# Altium schematic symbol library SCH - INTERFACE - CAN - TCAN1042HGVDR.SCHLIB: 1 symbol
Pins are listed as number, name and electrical type; pins without a type are passive.

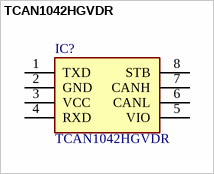
[diagram p0: symbol TCAN1042HGVDR]

## TCAN1042HGVDR
designator IC?
Integrated Circuit
pins: 1 TXD, 2 GND, 3 VCC, 4 RXD, 5 VIO, 6 CANL, 7 CANH, 8 STB